# Altium footprint library Alcetronics_Devices.PcbLib: 71 footprints (part 4 of 5)
Each footprint in its own frame and in the unit in brackets; x right, y up, seen from the top. Pads: shape width x height; smd on the part's side, far side on the other; paste and mask are expansions set on the pad; w line width, h text height; cw(c..) or ccw(c..) is an arc to the next point about the centre after c.
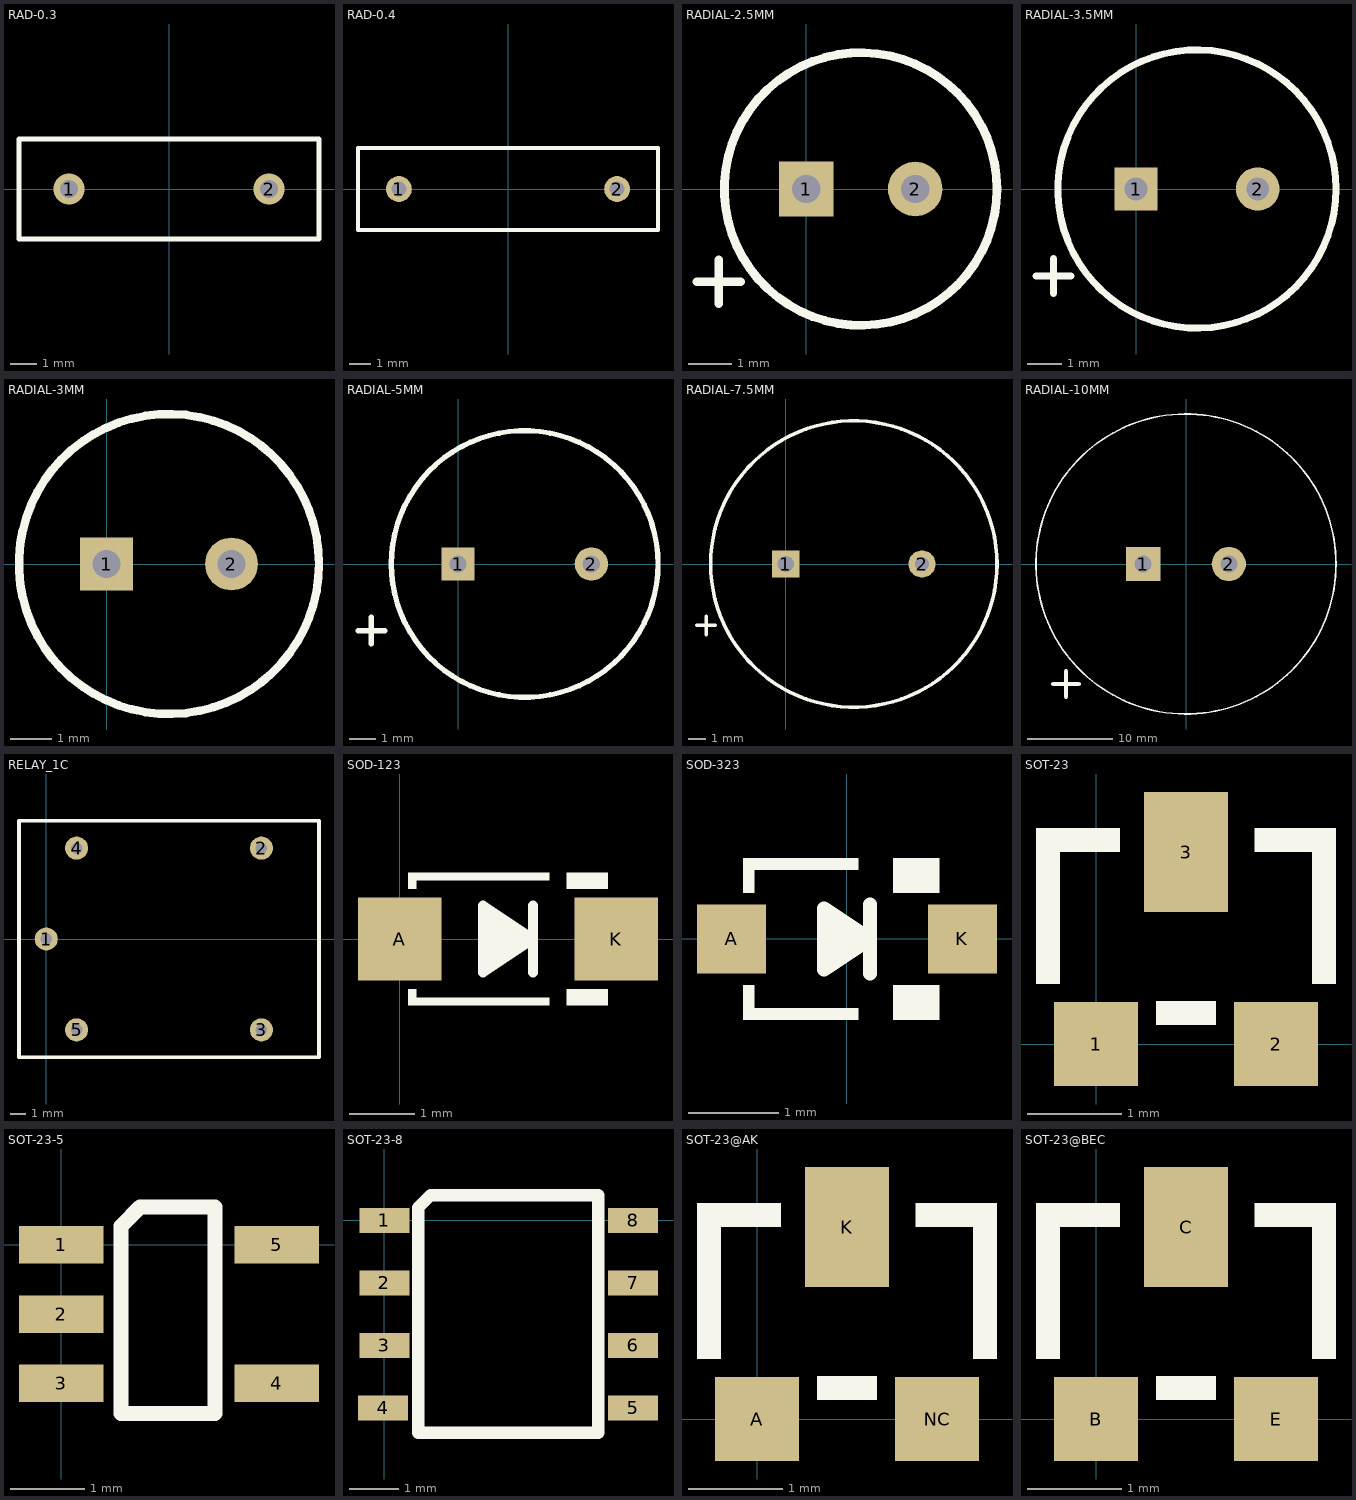
[diagram p3: the footprints below, top view; thin cyan lines are the x and y axes]

## RAD-0.3 [mm] "Radial Cap, Thru-Hole; 2 Leads; 0.3 in Pin Spacing"
height 6
pads (2):
  round 1.2 hole 0.7: 1(-3.81,0) 2(3.81,0)
Top Overlay:
  lines w0.2: -5.715,-1.905 5.715,-1.905 5.715,1.905 -5.715,1.905 -5.715,-1.905

## RAD-0.4 [mm] "Radial Cap, Thru-Hole; 2 Leads; 0.4 in Pin Spacing"
pads (2):
  round 1.2 hole 0.7: 1(-5.08,0) 2(5.08,0)
Top Overlay:
  lines w0.2: -6.985,-1.905 -6.985,1.905 6.985,1.905 6.985,-1.905 -6.985,-1.905

## RADIAL-2.5MM [mil]
height 435
pads (2):
  rect 50x50 hole 26: 1(0,0)
  round 50 hole 26: 2(100,0)
Top Overlay:
  circle w8: c50,0 r125
  lines w8: -100,-85 -60,-85 ; -80,-105 -80,-65

## RADIAL-3.5MM [mil]
height 455
pads (2):
  rect 50x50 hole 26: 1(0,0)
  round 50 hole 26: 2(140,0)
Top Overlay:
  circle w8: c70,0 r160
  lines w8: -115,-100 -75,-100 ; -95,-120 -95,-80

## RADIAL-3MM [mil]
pads (2):
  rect 50x50 hole 26: 1(0,0)
  round 50 hole 26: 2(118.11,0)
Top Overlay:
  circle w8: c59.05,0 r141.73

## RADIAL-5MM [mil]
height 475
pads (2):
  rect 50x50 hole 26: 1(0,0)
  round 50 hole 26: 2(200,0)
Top Overlay:
  circle w8: c100,0 r200
  lines w8: -150,-100 -110,-100 ; -130,-120 -130,-80

## RADIAL-7.5MM [mil]
height 985
pads (2):
  rect 60x60 hole 36: 1(0,0)
  round 60 hole 31.5: 2(300,0)
Top Overlay:
  circle w8: c150,0 r315
  lines w8: -195,-135 -155,-135 ; -175,-155 -175,-115

## RADIAL-10MM [mm]
height 50
pads (2):
  rect 4x4 hole 2: 1(-5,0)
  round 4 hole 2: 2(5,0)
Top Overlay:
  circle w0.2: c0,0 r17.5
  lines w0.5: -15.5,-14 -12.5,-14 ; -14,-15.5 -14,-12.5

## RELAY_1C [mil]
pads (5):
  round 60 hole 30: 1(0,0) 2(559.06,236.22) 3(559.06,-236.22) 4(78.74,236.22) 5(78.74,-236.22)
Top Overlay:
  lines w10: -70.87,-307.09 708.66,-307.09 708.66,307.09 -70.87,307.09 -70.87,-307.09

## SOD-123 [mil]
pads (2):
  rect 50x50 smd: A(0,0) K(130,0)
Top Overlay:
  rectangle: 100,-40 125,-30
  rectangle: 5,-40 90,-35
  rectangle: 5,-35 10,-30
  rectangle: 5,30 10,35
  rectangle: 5,35 90,40
  rectangle: 100,30 125,40
  region: 50,20 50,-20 80,0
  lines w6: 80,-20 80,20 ; 50,-20 80,0 50,20 50,-20

## SOD-323 [mil]
height 46
pads (2):
  rect 30x30 smd: A(-50,0) K(50,0)
Top Overlay:
  rectangle: 20,-35 40,-20
  rectangle: -45,-35 5,-30
  rectangle: -45,-30 -40,-20
  rectangle: -45,20 -40,30
  rectangle: -45,30 5,35
  rectangle: 20,20 40,35
  region: -10,13.34 -10,-13.33 10,0
  lines w6: 10,-15 10,15 ; -10,-13.33 -10,13.34 10,0 -10,-13.33

## SOT-23 [mil]
pads (3):
  rect 35x35 smd: 1(0,0) 2(75,0)
  rect 35x50 smd: 3(37.5,80)
Top Overlay:
  rectangle: 25,8 50,18
  rectangle: 90,25 100,90
  rectangle: 66,80 100,90
  rectangle: -25,25 -15,90
  rectangle: -25,80 10,90

## SOT-23-5 [mil]
pads (5):
  rect 45x20 smd: 1(0,0) 2(0,-37) 3(0,-74) 4(115,-74) 5(115,0)
Top Overlay:
  lines w8: 32,-90 82,-90 82,20 42,20 32,10 32,-90

## SOT-23-8 [mil]
pads (8):
  rect 40x20 smd: 1(0,0) 2(0,-50) 3(0,-100) 4(-1,-150) 5(199,-150) 6(199,-100) 7(199,-50) 8(199,0)
Top Overlay:
  lines w10: 37,20 27,10 27,-170 171,-170 171,20 38,20

## SOT-23@AK [mil] "SOT-23 (1-Anode, 2-NC, 3-Cathode)"
pads (3):
  rect 35x35 smd: A(0,0) NC(75,0)
  rect 35x50 smd: K(37.5,80)
Top Overlay:
  rectangle: -25,80 10,90
  rectangle: -25,25 -15,90
  rectangle: 66,80 100,90
  rectangle: 90,25 100,90
  rectangle: 25,8 50,18

## SOT-23@BEC [mil] "Bipolar Transistor SOT23"
pads (3):
  rect 35x35 smd: B(0,0) E(75,0)
  rect 35x50 smd: C(37.5,80)
Top Overlay:
  rectangle: 25,8 50,18
  rectangle: 90,25 100,90
  rectangle: 66,80 100,90
  rectangle: -25,25 -15,90
  rectangle: -25,80 10,90